# Altium footprint library Core1106.PcbLib: 1 footprints
Each footprint in its own frame and in the unit in brackets; x right, y up, seen from the top. Pads: shape width x height; smd on the part's side, far side on the other; paste and mask are expansions set on the pad; w line width, h text height; cw(c..) or ccw(c..) is an arc to the next point about the centre after c.
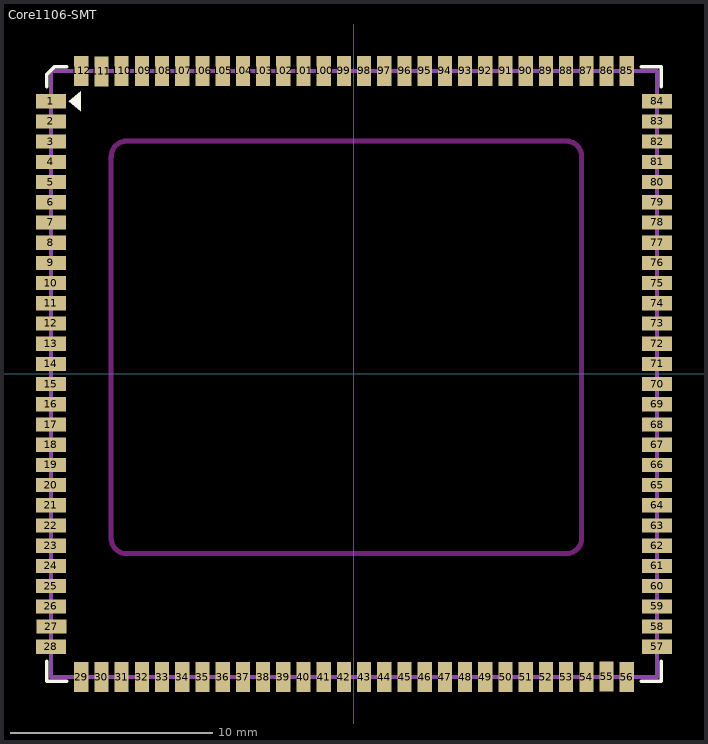
[diagram p0: the footprint, top view; thin cyan lines are the x and y axes]

## Core1106-SMT [mm]
height 0.8
pads (112):
  rect 1.5x0.7 smd mask+0.051: 1(-15,13.5) 2(-15,12.5) 3(-15,11.5) 4(-15,10.5) 5(-15,9.5) 6(-15,8.5) 7(-15,7.5) 8(-15,6.5) 9(-15,5.5) 10(-15,4.5) 11(-15,3.5) 12(-15,2.5) 13(-15,1.5) 14(-15,0.5) 15(-15,-0.5) 16(-15,-1.5) 17(-15,-2.5) 18(-15,-3.5) 19(-15,-4.5) 20(-15,-5.5) 21(-15,-6.5) 22(-15,-7.5) 23(-15,-8.5) 24(-15,-9.5) 25(-15,-10.5) 26(-15,-11.5) 27(-14.978,-12.5) 28(-15,-13.5) 57(15,-13.5) 58(15,-12.5) 59(15,-11.5) 60(15,-10.5) 61(15,-9.5) 62(15,-8.5) 63(15,-7.5) 64(15,-6.5) 65(15,-5.5) 66(15,-4.5) 67(15,-3.5) 68(15,-2.5) 69(15,-1.5) 70(15,-0.5) 71(15,0.5) 72(15,1.5) 73(15,2.5) 74(15,3.5) 75(15,4.5) 76(15,5.5) 77(15,6.5) 78(15,7.5) 79(15,8.5) 80(15,9.5) 81(15,10.5) 82(15,11.5) 83(15,12.5) 84(15,13.5)
  rect 0.7x1.5 smd mask+0.051: 29(-13.5,-15) 30(-12.5,-15) 31(-11.5,-15) 32(-10.5,-15) 33(-9.5,-15) 34(-8.5,-15) 35(-7.5,-15) 36(-6.5,-15) 37(-5.5,-15) 38(-4.5,-15) 39(-3.5,-15) 40(-2.5,-15) 41(-1.5,-15) 42(-0.5,-15) 43(0.5,-15) 44(1.5,-15) 45(2.5,-15) 46(3.5,-15) 47(4.5,-15) 48(5.5,-15) 49(6.5,-15) 50(7.5,-15) 51(8.5,-15) 52(9.5,-15) 53(10.5,-15) 54(11.5,-15) 55(12.5,-14.978) 56(13.5,-15) 85(13.5,15) 86(12.5,15) 87(11.5,15) 88(10.5,15) 89(9.5,15) 90(8.5,15) 91(7.5,15) 92(6.5,15) 93(5.5,15) 94(4.5,15) 95(3.5,15) 96(2.5,15) 97(1.5,15) 98(0.5,15) 99(-0.5,15) 100(-1.5,15) 101(-2.5,15) 102(-3.5,15) 103(-4.5,15) 104(-5.5,15) 105(-6.5,15) 106(-7.5,15) 107(-8.5,15) 108(-9.5,15) 109(-10.5,15) 110(-11.5,15) 111(-12.5,14.978) 112(-13.5,15)
Top Overlay:
  region: -13.53,12.995 -14.13,13.505 -13.53,14.006
  lines w0.178: -15.2,-14.212 -15.2,-15.2 -14.212,-15.2 ; -15.2,14.212 -15.2,14.84 -14.84,15.2 -14.212,15.2 ; 14.212,-15.2 15.2,-15.2 15.2,-14.212 ; 14.212,15.2 15.2,15.2 15.2,14.212
Keep-Out Layer:
  lines w0.254: -12.024,10.766 -12.024,-8.127 ccw(c-11.262,-8.127) -11.262,-8.889 10.461,-8.889 ; -12.018,10.766 cw(c-11.256,10.766) -11.256,11.528 10.508,11.528 cw(c10.508,10.766) 11.27,10.766 11.27,-8.127 cw(c10.508,-8.127) 10.508,-8.889
Mechanical 2:
  lines w0.2: -15,-15 -15,15 15,15 15,-15 -15,-15
3D body "core1106_NEW.stp": height 2.92, standoff -0.8, extent -15,-15 15,15